# Altium footprint library ElectroSmithPot.PcbLib: 1 footprints
Each footprint in its own frame and in the unit in brackets; x right, y up, seen from the top. Pads: shape width x height; smd on the part's side, far side on the other; paste and mask are expansions set on the pad; w line width, h text height; cw(c..) or ccw(c..) is an arc to the next point about the centre after c.
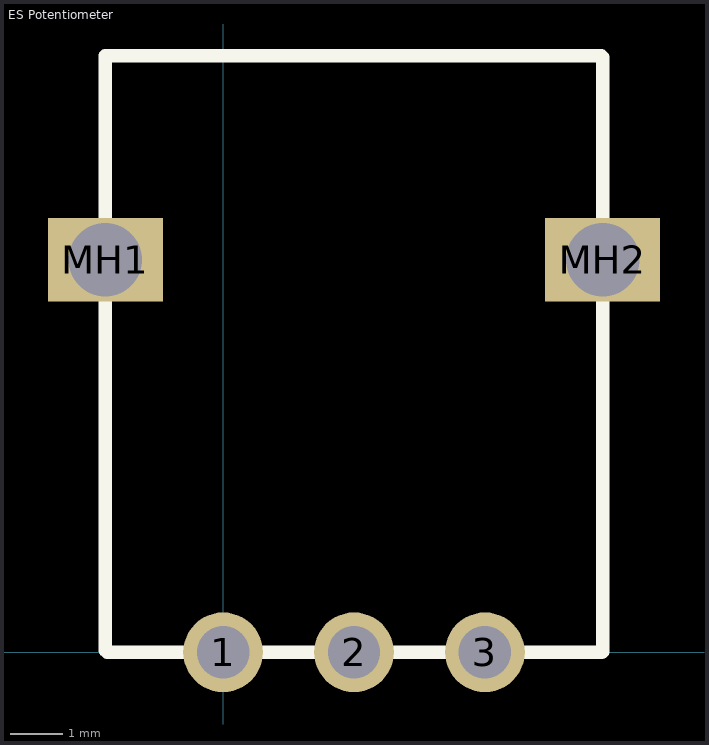
[diagram p0: the footprint, top view; thin cyan lines are the x and y axes]

## ES Potentiometer [mm]
pads (5):
  round 1.524 hole 1: 1(0,0) 2(2.5,0) 3(5,0)
  rect 2.2x1.6 hole 1.4 square: MH1(-2.25,7.5) MH2(7.25,7.5)
Top Overlay:
  lines w0.254: -2.25,0.036 -2.214,0 2.5,0 7.239,0 7.25,0.011 7.25,7.5 7.25,11.369 7.225,11.394 -2.25,11.394 -2.25,7.5 -2.25,0.036